# Altium schematic symbol library Co-DoubleDip.SchLib: 1 symbol
Pins are listed as number, name and electrical type; pins without a type are passive.

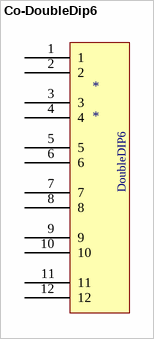
[diagram p0: symbol Co-DoubleDip6]

## Co-DoubleDip6
designator *
footprint DoubleDIP6
pins: 1, 2, 3, 4, 5, 6, 7, 8, 9, 10, 11, 12
text: DoubleDIP6